# Altium footprint library SOD-523.PcbLib: 1 footprints
Each footprint in its own frame and in the unit in brackets; x right, y up, seen from the top. Pads: shape width x height; smd on the part's side, far side on the other; paste and mask are expansions set on the pad; w line width, h text height; cw(c..) or ccw(c..) is an arc to the next point about the centre after c.
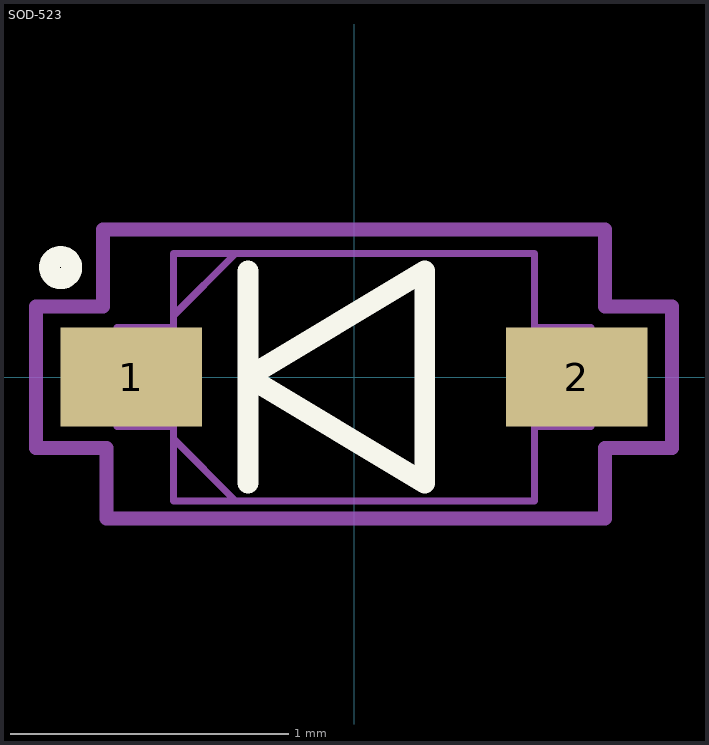
[diagram p0: the footprint, top view; thin cyan lines are the x and y axes]

## SOD-523 [mil]
pads (2):
  rect 20x14 smd paste+0 mask+0: 1(-31.5,0) 2(31.5,0)
Top Overlay:
  lines w2.95: -40,15 cw(c-41.49,15.5) -39.97,15.12 ; -15,-15 -15,15 ; -15,0 10,15 10,-15 -15,0
Top 3D Body:
  lines w1: -25.5,-8.75 -16.75,-17.5 ; -25.5,8.75 -16.75,17.5 ; -33.5,-7 -33.5,7 -25.5,7 -25.5,-7 -33.5,-7 ; -25.5,-17.5 25.5,-17.5 25.5,17.5 -25.5,17.5 -25.5,-17.5 ; 25.5,-7 25.5,7 33.5,7 33.5,-7 25.5,-7
Top Courtyard:
  lines w0.39: -35.03,-10.03 -35.06,-10
  lines w1.97: -35.03,-10.03 -35.03,-19.97 35.5,-19.97 35.5,-10 45,-10 45,10 35.5,10 35.5,20.85 -35.5,20.85 -35.5,10 -45,10 -45,-10 -35.06,-10
3D body "SOD-523_0P9X1P3_ONS.step": height 18.27, standoff 0, extent -33.5,-17.48 33.5,17.48